# Altium schematic symbol library Interface_CAN_LIN.SchLib: 1 symbol
Pins are listed as number, name and electrical type; pins without a type are passive.

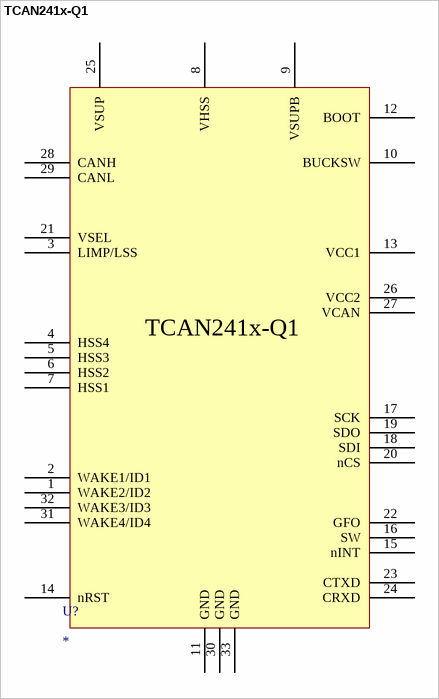
[diagram p0: symbol TCAN241x-Q1]

## TCAN241x-Q1
designator U?
TCAN241x-Q1 Automotive CAN FD System Basis Chip SBC) with Integrated Buck Regulator and Watchdog
pins: 1 WAKE2/ID2, 2 WAKE1/ID1, 3 LIMP/LSS, 4 HSS4, 5 HSS3, 6 HSS2, 7 HSS1, 8 VHSS, 9 VSUPB, 10 BUCKSW, 11 GND, 12 BOOT, 13 VCC1, 14 nRST, 15 nINT, 16 SW, 17 SCK, 18 SDI, 19 SDO, 20 nCS, 21 VSEL, 22 GFO, 23 CTXD, 24 CRXD, 25 VSUP, 26 VCC2, 27 VCAN, 28 CANH, 29 CANL, 30 GND, 31 WAKE4/ID4, 32 WAKE3/ID3, 33 GND